# Altium schematic symbol library Audio_Module.SchLib: 1 symbol
Pins are listed as number, name and electrical type; pins without a type are passive.

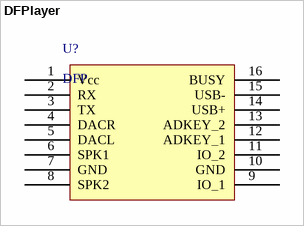
[diagram p0: symbol DFPlayer]

## DFPlayer
designator U?, comment DFP
DFPlayer
footprint DFPlayer
pins: 1 Vcc, 2 RX, 3 TX, 4 DACR, 5 DACL, 6 SPK1, 7 GND, 8 SPK2, 9 IO_1, 10 GND, 11 IO_2, 12 ADKEY_1, 13 ADKEY_2, 14 USB+, 15 USB-, 16 BUSY